# EAGLE library part BMP183 (library adafruit)
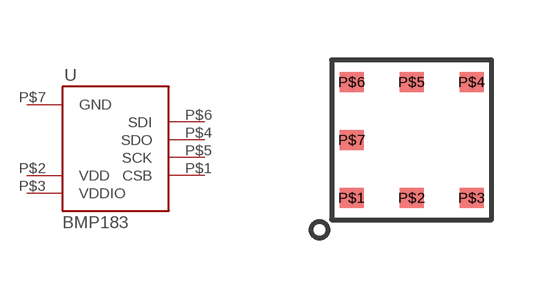
[diagram p115: symbol with the pads of LGA7; footprint LGA7]

Designator prefix -

## BMP183  [LGA7]
P$1  CSB
P$2  VDD
P$3  VDDIO
P$4  SDO
P$5  SCK
P$6  SDI
P$7  GND

## Footprint LGA7 (pad centres in mm)
smd 0.6 x 0.5: P$1 -1.5,-1.45; P$2 0,-1.45; P$3 1.5,-1.45; P$4 1.5,1.45; P$5 0,1.45; P$6 -1.5,1.45; P$7 -1.5,0